# Altium schematic symbol library AD822ARZ.SchLib: 1 symbol
Pins are listed as number, name and electrical type; pins without a type are passive.

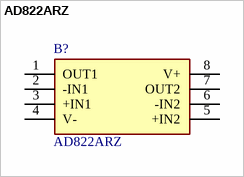
[diagram p0: symbol AD822ARZ]

## AD822ARZ
designator B?
Dual low power op amp,AD822AR SO8; Manufacturer_Name: Analog Devices; Geometry.Height: 1.75mm; Mouser Part Number: 584-AD822ARZ; Mouser Price/Stock: https://www.mouser.co.uk/ProductDetail/Analog-Devices/AD822ARZ?qs=%2FtpEQrCGXCyQk45j94GovQ%3D%3D; Manufacturer_Part_Number: AD822ARZ; Datasheet Link: https://www.analog.com/media/en/technical-documentation/data-sheets/AD822.pdf
footprint SOIC127P600X175-8N
pins: 1 OUT1, 2 -IN1, 3 +IN1, 4 V-, 5 +IN2, 6 -IN2, 7 OUT2, 8 V+